# Altium schematic symbol library Lund_Schematics - Copy4Mitch.SchLib: 6 symbols
Pins are listed as number, name and electrical type; pins without a type are passive.

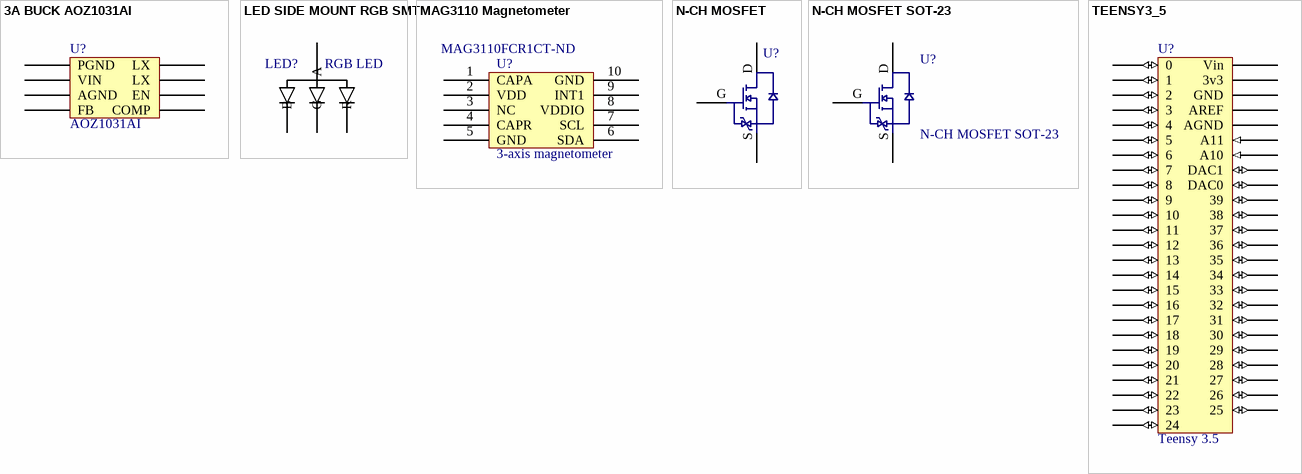
[diagram p0: symbols 3A BUCK AOZ1031AI to TEENSY3_5]

## 3A BUCK AOZ1031AI
designator U?, comment AOZ1031AI
3A Synchronous Buck Reg AOZ1031AI 18V; Supplier 1: Digi-Key
footprint SOIC-8 (SOIC, 8-Leads, Body 4.9x3.9mm, Pitch 1.27mm)
pins: 1 PGND, 2 VIN, 3 AGND, 4 FB, 5 COMP, 6 EN, 7 LX, 8 LX

## LED SIDE MOUNT RGB SMT
designator LED?, comment RGB LED
OVSRRGBCC3 RGB LED RIGHT ANGLE SMT; Supplier 1: Digi-Key; Supplier Part Number 1: 365-1981-1-ND
footprint LED RGB RA (LED RGB RA OVSRRGBCC3)
pins: 1 R, 2 G, 3 B, 4 A

## MAG3110 Magnetometer
designator U?, comment 3-axis magnetometer  Supplier Part Number 1: MAG3110FCR1CT-ND
3 axis magnetometer/compass; Supplier 1: Digi-Key
footprint VFQFN-10 (.4 mm pitch 10 pin QFN)
pins: 1 CAPA, 2 VDD, 3 NC, 4 CAPR, 5 GND, 6 SDA, 7 SCL, 8 VDDIO, 9 INT1, 10 GND

## N-CH MOSFET
designator U?
N-channel MOSFET; Power: 280 mW; Drain to Source Voltage: 20 V; Vth: 1 V; Rds: 400 mOhm @ 600 mA 4.5V; Ids: 630 mA; Technology: SMT; Supplier 1: Digi-Key; Supplier Part Number 1: DMG1012T-7DICT-ND
footprint SOT523 (SOT523 package)
pins: D, G, S
1 alternate drawing of the same symbol

## N-CH MOSFET SOT-23
designator U?
footprint SOT23 (SOT-23 footprint)
pins: D, G, S

## TEENSY3_5
designator U?, comment Teensy 3.5
Teensy 3.5 with SD card; Supplier 1: Digi-Key
footprint TEENSY3_5 (Teensy 3.5 board (w/ SD card) mating pattern)
pins: 0 (io), 1 (io), 2 (io), 3 (io), 3v3 (power), 4 (io), 5 (io), 6 (io), 7 (io), 8 (io), 9 (io), 10 (io), 11 (io), 12 (io), 13 (io), 14 (io), 15 (io), 16 (io), 17 (io), 18 (io), 19 (io), 20 (io), 21 (io), 22 (io), 23 (io), 24 (io), 25 (io), 26 (io), 27 (io), 28 (io), 29 (io), 30 (io), 31 (io), 32 (io), 33 (io), 34 (io), 35 (io), 36 (io), 37 (io), 38 (io), 39 (io), A10 (in), A11 (in), AGND (power), AREF, DAC0 (io), DAC1 (io), GND (power), Vin (power)